# Altium integrated library ON Semi Zener Diodes.IntLib: 1366 symbols (part 3 of 29)
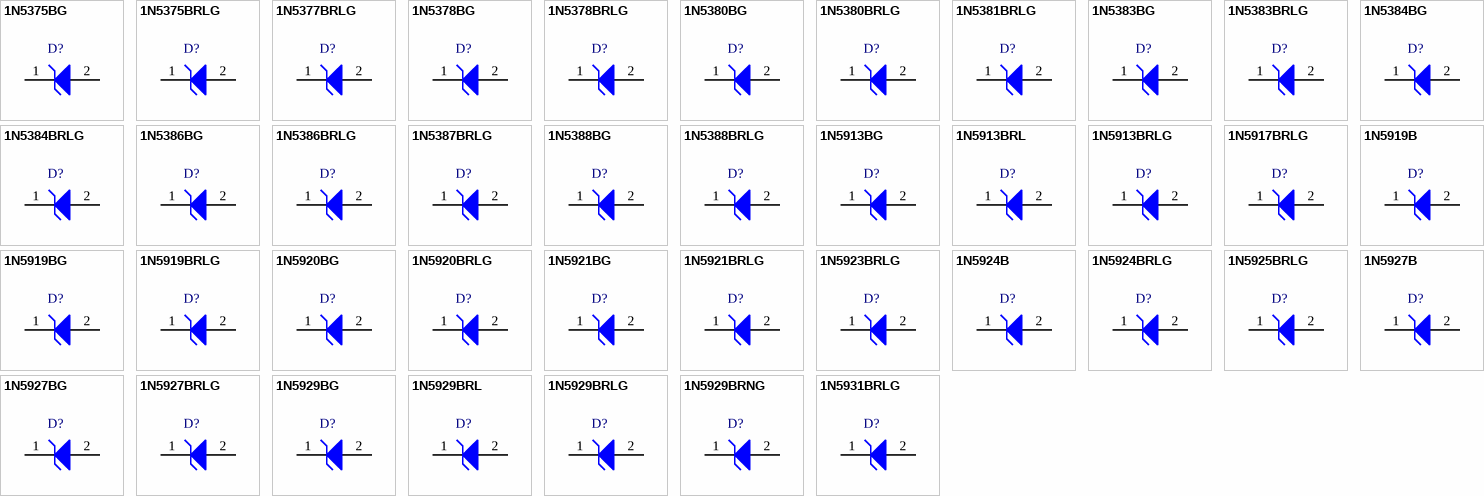
[diagram p46: symbols 1N5375BG to 1N5931BRLG]

## 1N5384BRLG
designator D?
5 W Zener Voltage Regulator, 2-Pin Surmetic(TM) 40, Pb-Free, Tape and Reel; Manufacturer: On Semiconductor; PartNumber: 1N5384BRLG; P Max (W): 5; VZ Typ (V): 160; DatasheetVersion: Rev. 14; PackageVersion: Rev. O, 09/2005; PackageReference: SURMETIC40-2-017AA-01; PackageDescription: 2-Pin, Axial Lead, Diameter 3.49 mm; Supplier 1: Digi-Key; Supplier Part Number 1: 1N5384BRLG-ND; Supplier 2: Newark; Supplier Part Number 2: 42K2925; Supplier 3: Mouser; Supplier Part Number 3: 863-1N5384BRLG; Packing: Tape and Reel; RoHS: Pb-Free; Mounting Technology: Through Hole; ComponentLink1Description: Manufacturer URL; ComponentLink1URL: http://www.onsemi.com/; ComponentLink2Description: Datasheet; ComponentLink2URL: http://www.onsemi.cn/pub_link/Collateral/1N5333B-D.PDF; ComponentLink3Description: Package Specification; ComponentLink3URL: http://www.onsemi.cn/pub_link/Collateral/017AA.PDF
footprint ONSC-SURMETIC40-2-017AA-01 (AXIAL, 2-Leads, Diameter 3.49mm)
pins: 1 K, 2 A

## 1N5386BG
designator D?
5 W Zener Voltage Regulator, 2-Pin Surmetic(TM) 40, Pb-Free, Bulk Box; Manufacturer: On Semiconductor; PartNumber: 1N5386BG; P Max (W): 5; VZ Typ (V): 180; DatasheetVersion: Rev. 14; PackageVersion: Rev. O, 09/2005; PackageReference: SURMETIC40-2-017AA-01; PackageDescription: 2-Pin, Axial Lead, Diameter 3.49 mm; Supplier 1: Digi-Key; Supplier Part Number 1: 1N5386BGOS-ND; Supplier 2: Farnell; Supplier Part Number 2: 9558390; Supplier 3: Newark; Supplier Part Number 3: 42K2926; Supplier 4: Mouser; Supplier Part Number 4: 863-1N5386BG; Packing: Bulk Box; RoHS: Pb-Free; Mounting Technology: Through Hole; ComponentLink1Description: Manufacturer URL; ComponentLink1URL: http://www.onsemi.com/; ComponentLink2Description: Datasheet; ComponentLink2URL: http://www.onsemi.cn/pub_link/Collateral/1N5333B-D.PDF; ComponentLink3Description: Package Specification; ComponentLink3URL: http://www.onsemi.cn/pub_link/Collateral/017AA.PDF
footprint ONSC-SURMETIC40-2-017AA-01 (AXIAL, 2-Leads, Diameter 3.49mm)
pins: 1 K, 2 A

## 1N5386BRLG
designator D?
5 W Zener Voltage Regulator, 2-Pin Surmetic(TM) 40, Pb-Free, Tape and Reel; Manufacturer: On Semiconductor; PartNumber: 1N5386BRLG; P Max (W): 5; VZ Typ (V): 180; DatasheetVersion: Rev. 14; PackageVersion: Rev. O, 09/2005; PackageReference: SURMETIC40-2-017AA-01; PackageDescription: 2-Pin, Axial Lead, Diameter 3.49 mm; Supplier 1: Digi-Key; Supplier Part Number 1: 1N5386BRLGOSTR-ND; Supplier 2: Digi-Key; Supplier Part Number 2: 1N5386BRLGOSCT-ND; Supplier 3: Farnell; Supplier Part Number 3: 1705683; Supplier 4: Newark; Supplier Part Number 4: 10N9641; Supplier 5: Mouser; Supplier Part Number 5: 863-1N5386BRLG; Packing: Tape and Reel; RoHS: Pb-Free; Mounting Technology: Through Hole; ComponentLink1Description: Manufacturer URL; ComponentLink1URL: http://www.onsemi.com/; ComponentLink2Description: Datasheet; ComponentLink2URL: http://www.onsemi.cn/pub_link/Collateral/1N5333B-D.PDF; ComponentLink3Description: Package Specification; ComponentLink3URL: http://www.onsemi.cn/pub_link/Collateral/017AA.PDF
footprint ONSC-SURMETIC40-2-017AA-01 (AXIAL, 2-Leads, Diameter 3.49mm)
pins: 1 K, 2 A

## 1N5387BRLG
designator D?
5 W Zener Voltage Regulator, 2-Pin Surmetic(TM) 40, Pb-Free, Tape and Reel; Manufacturer: On Semiconductor; PartNumber: 1N5387BRLG; P Max (W): 5; VZ Typ (V): 190; DatasheetVersion: Rev. 14; PackageVersion: Rev. O, 09/2005; PackageReference: SURMETIC40-2-017AA-01; PackageDescription: 2-Pin, Axial Lead, Diameter 3.49 mm; Supplier 1: Digi-Key; Supplier Part Number 1: 1N5387BRLGOSTR-ND; Supplier 2: Digi-Key; Supplier Part Number 2: 1N5387BRLGOSCT-ND; Supplier 3: Newark; Supplier Part Number 3: 03M1236; Supplier 4: Mouser; Supplier Part Number 4: 863-1N5387BRLG; Packing: Tape and Reel; RoHS: Pb-Free; Mounting Technology: Through Hole; ComponentLink1Description: Manufacturer URL; ComponentLink1URL: http://www.onsemi.com/; ComponentLink2Description: Datasheet; ComponentLink2URL: http://www.onsemi.cn/pub_link/Collateral/1N5333B-D.PDF; ComponentLink3Description: Package Specification; ComponentLink3URL: http://www.onsemi.cn/pub_link/Collateral/017AA.PDF
footprint ONSC-SURMETIC40-2-017AA-01 (AXIAL, 2-Leads, Diameter 3.49mm)
pins: 1 K, 2 A

## 1N5388BG
designator D?
5 W Zener Voltage Regulator, 2-Pin Surmetic(TM) 40, Pb-Free, Bulk Box; Manufacturer: On Semiconductor; PartNumber: 1N5388BG; P Max (W): 5; VZ Typ (V): 200; DatasheetVersion: Rev. 14; PackageVersion: Rev. O, 09/2005; PackageReference: SURMETIC40-2-017AA-01; PackageDescription: 2-Pin, Axial Lead, Diameter 3.49 mm; Supplier 1: Digi-Key; Supplier Part Number 1: 1N5388BGOS-ND; Supplier 2: Farnell; Supplier Part Number 2: 9558403; Supplier 3: Newark; Supplier Part Number 3: 70K6988; Supplier 4: Newark; Supplier Part Number 4: 39K0640; Supplier 5: Mouser; Supplier Part Number 5: 863-1N5388BG; Packing: Bulk Box; RoHS: Pb-Free; Mounting Technology: Through Hole; ComponentLink1Description: Manufacturer URL; ComponentLink1URL: http://www.onsemi.com/; ComponentLink2Description: Datasheet; ComponentLink2URL: http://www.onsemi.cn/pub_link/Collateral/1N5333B-D.PDF; ComponentLink3Description: Package Specification; ComponentLink3URL: http://www.onsemi.cn/pub_link/Collateral/017AA.PDF
footprint ONSC-SURMETIC40-2-017AA-01 (AXIAL, 2-Leads, Diameter 3.49mm)
pins: 1 K, 2 A

## 1N5388BRLG
designator D?
5 W Zener Voltage Regulator, 2-Pin Surmetic(TM) 40, Pb-Free, Tape and Reel; Manufacturer: On Semiconductor; PartNumber: 1N5388BRLG; P Max (W): 5; VZ Typ (V): 200; DatasheetVersion: Rev. 14; PackageVersion: Rev. O, 09/2005; PackageReference: SURMETIC40-2-017AA-01; PackageDescription: 2-Pin, Axial Lead, Diameter 3.49 mm; Supplier 1: Digi-Key; Supplier Part Number 1: 1N5388BRLGOSTR-ND; Supplier 2: Digi-Key; Supplier Part Number 2: 1N5388BRLGOSCT-ND; Supplier 3: Farnell; Supplier Part Number 3: 2369375; Supplier 4: Newark; Supplier Part Number 4: 10N9642; Supplier 5: Mouser; Supplier Part Number 5: 863-1N5388BRLG; Packing: Tape and Reel; RoHS: Pb-Free; Mounting Technology: Through Hole; ComponentLink1Description: Manufacturer URL; ComponentLink1URL: http://www.onsemi.com/; ComponentLink2Description: Datasheet; ComponentLink2URL: http://www.onsemi.cn/pub_link/Collateral/1N5333B-D.PDF; ComponentLink3Description: Package Specification; ComponentLink3URL: http://www.onsemi.cn/pub_link/Collateral/017AA.PDF
footprint ONSC-SURMETIC40-2-017AA-01 (AXIAL, 2-Leads, Diameter 3.49mm)
pins: 1 K, 2 A

## 1N5913BG
designator D?
3 W Zener Voltage Regulator, 2-Pin Axial_Lead, Pb-Free, Bulk Box; Manufacturer: On Semiconductor; PartNumber: 1N5913BG; VZ Typ (V): 3.3; DatasheetVersion: Rev. 5; PackageVersion: Rev. U, 02/2005; PackageReference: AXIAL_LEAD-2-59-10; PackageDescription: 2-Pin, Axial Lead, Diameter 2.35 mm; Supplier 1: Digi-Key; Supplier Part Number 1: 1N5913BG-ND; Supplier 2: Mouser; Supplier Part Number 2: 863-1N5913BG; Packing: Bulk Box; RoHS: Pb-Free; Mounting Technology: Through Hole; ComponentLink1Description: Manufacturer URL; ComponentLink1URL: http://www.onsemi.com/; ComponentLink2Description: Datasheet; ComponentLink2URL: http://www.onsemi.cn/pub_link/Collateral/1N5913B-D.PDF; ComponentLink3Description: Package Specification; ComponentLink3URL: http://www.onsemi.cn/pub_link/Collateral/59-10.PDF
footprint ONSC-AXIAL_LEAD-2-59-10_P (AXIAL, 2-Leads, Diameter 2.35mm)
pins: 1 K, 2 A

## 1N5913BRL
designator D?
3 W Zener Voltage Regulator, 2-Pin Axial_Lead, Pb-Free, Tape and Reel; Manufacturer: On Semiconductor; PartNumber: 1N5913BRL; VZ Typ (V): 3.3; DatasheetVersion: Rev. 5; PackageVersion: Rev. U, 02/2005; PackageReference: AXIAL_LEAD-2-59-10; PackageDescription: 2-Pin, Axial Lead, Diameter 2.35 mm; Supplier 1: Digi-Key; Supplier Part Number 1: 1N5913BRL-ND; Supplier 2: Mouser; Supplier Part Number 2: 863-1N5913BRL; Packing: Tape and Reel; RoHS: Pb-Free; Mounting Technology: Through Hole; ComponentLink1Description: Manufacturer URL; ComponentLink1URL: http://www.onsemi.com/; ComponentLink2Description: Datasheet; ComponentLink2URL: http://www.onsemi.cn/pub_link/Collateral/1N5913B-D.PDF; ComponentLink3Description: Package Specification; ComponentLink3URL: http://www.onsemi.cn/pub_link/Collateral/59-10.PDF
footprint ONSC-AXIAL_LEAD-2-59-10_P (AXIAL, 2-Leads, Diameter 2.35mm)
pins: 1 K, 2 A

## 1N5913BRLG
designator D?
3 W Zener Voltage Regulator, 2-Pin Axial_Lead, Pb-Free, Tape and Reel; Manufacturer: On Semiconductor; PartNumber: 1N5913BRLG; VZ Typ (V): 3.3; DatasheetVersion: Rev. 5; PackageVersion: Rev. U, 02/2005; PackageReference: AXIAL_LEAD-2-59-10; PackageDescription: 2-Pin, Axial Lead, Diameter 2.35 mm; Supplier 1: Digi-Key; Supplier Part Number 1: 1N5913BRLGOSTR-ND; Supplier 2: Digi-Key; Supplier Part Number 2: 1N5913BRLGOSCT-ND; Supplier 3: Newark; Supplier Part Number 3: 42K2957; Supplier 4: Mouser; Supplier Part Number 4: 863-1N5913BRLG; Packing: Tape and Reel; RoHS: Pb-Free; Mounting Technology: Through Hole; ComponentLink1Description: Manufacturer URL; ComponentLink1URL: http://www.onsemi.com/; ComponentLink2Description: Datasheet; ComponentLink2URL: http://www.onsemi.cn/pub_link/Collateral/1N5913B-D.PDF; ComponentLink3Description: Package Specification; ComponentLink3URL: http://www.onsemi.cn/pub_link/Collateral/59-10.PDF
footprint ONSC-AXIAL_LEAD-2-59-10_P (AXIAL, 2-Leads, Diameter 2.35mm)
pins: 1 K, 2 A

## 1N5917BRLG
designator D?
3 W Zener Voltage Regulator, 2-Pin Axial_Lead, Pb-Free, Tape and Reel; Manufacturer: On Semiconductor; PartNumber: 1N5917BRLG; VZ Typ (V): 4.7; DatasheetVersion: Rev. 5; PackageVersion: Rev. U, 02/2005; PackageReference: AXIAL_LEAD-2-59-10; PackageDescription: 2-Pin, Axial Lead, Diameter 2.35 mm; Supplier 1: Digi-Key; Supplier Part Number 1: 1N5917BRLGOSTR-ND; Supplier 2: Digi-Key; Supplier Part Number 2: 1N5917BRLGOSCT-ND; Supplier 3: Mouser; Supplier Part Number 3: 863-1N5917BRLG; Packing: Tape and Reel; RoHS: Pb-Free; Mounting Technology: Through Hole; ComponentLink1Description: Manufacturer URL; ComponentLink1URL: http://www.onsemi.com/; ComponentLink2Description: Datasheet; ComponentLink2URL: http://www.onsemi.cn/pub_link/Collateral/1N5913B-D.PDF; ComponentLink3Description: Package Specification; ComponentLink3URL: http://www.onsemi.cn/pub_link/Collateral/59-10.PDF
footprint ONSC-AXIAL_LEAD-2-59-10_P (AXIAL, 2-Leads, Diameter 2.35mm)
pins: 1 K, 2 A

## 1N5919B
designator D?
3 W Zener Voltage Regulator, 2-Pin Axial_Lead, Pb-Free, Bulk Box; Manufacturer: On Semiconductor; PartNumber: 1N5919B; VZ Typ (V): 5.6; DatasheetVersion: Rev. 5; PackageVersion: Rev. U, 02/2005; PackageReference: AXIAL_LEAD-2-59-10; PackageDescription: 2-Pin, Axial Lead, Diameter 2.35 mm; Supplier 1: Digi-Key; Supplier Part Number 1: 1N5919B-ND; Supplier 2: Mouser; Supplier Part Number 2: 863-1N5919B; Packing: Bulk Box; RoHS: Pb-Free; Mounting Technology: Through Hole; ComponentLink1Description: Manufacturer URL; ComponentLink1URL: http://www.onsemi.com/; ComponentLink2Description: Datasheet; ComponentLink2URL: http://www.onsemi.cn/pub_link/Collateral/1N5913B-D.PDF; ComponentLink3Description: Package Specification; ComponentLink3URL: http://www.onsemi.cn/pub_link/Collateral/59-10.PDF
footprint ONSC-AXIAL_LEAD-2-59-10_P (AXIAL, 2-Leads, Diameter 2.35mm)
pins: 1 K, 2 A

## 1N5919BG
designator D?
3 W Zener Voltage Regulator, 2-Pin Axial_Lead, Pb-Free, Bulk Box; Manufacturer: On Semiconductor; PartNumber: 1N5919BG; VZ Typ (V): 5.6; DatasheetVersion: Rev. 5; PackageVersion: Rev. U, 02/2005; PackageReference: AXIAL_LEAD-2-59-10; PackageDescription: 2-Pin, Axial Lead, Diameter 2.35 mm; Supplier 1: Digi-Key; Supplier Part Number 1: 1N5919BGOS-ND; Supplier 2: Farnell; Supplier Part Number 2: 1126326; Supplier 3: Newark; Supplier Part Number 3: 42K2959; Supplier 4: Mouser; Supplier Part Number 4: 863-1N5919BG; Packing: Bulk Box; RoHS: Pb-Free; Mounting Technology: Through Hole; ComponentLink1Description: Manufacturer URL; ComponentLink1URL: http://www.onsemi.com/; ComponentLink2Description: Datasheet; ComponentLink2URL: http://www.onsemi.cn/pub_link/Collateral/1N5913B-D.PDF; ComponentLink3Description: Package Specification; ComponentLink3URL: http://www.onsemi.cn/pub_link/Collateral/59-10.PDF
footprint ONSC-AXIAL_LEAD-2-59-10_P (AXIAL, 2-Leads, Diameter 2.35mm)
pins: 1 K, 2 A

## 1N5919BRLG
designator D?
3 W Zener Voltage Regulator, 2-Pin Axial_Lead, Pb-Free, Tape and Reel; Manufacturer: On Semiconductor; PartNumber: 1N5919BRLG; VZ Typ (V): 5.6; DatasheetVersion: Rev. 5; PackageVersion: Rev. U, 02/2005; PackageReference: AXIAL_LEAD-2-59-10; PackageDescription: 2-Pin, Axial Lead, Diameter 2.35 mm; Supplier 1: Digi-Key; Supplier Part Number 1: 1N5919BRLGOSTR-ND; Supplier 2: Digi-Key; Supplier Part Number 2: 1N5919BRLGOSCT-ND; Supplier 3: Mouser; Supplier Part Number 3: 863-1N5919BRLG; Packing: Tape and Reel; RoHS: Pb-Free; Mounting Technology: Through Hole; ComponentLink1Description: Manufacturer URL; ComponentLink1URL: http://www.onsemi.com/; ComponentLink2Description: Datasheet; ComponentLink2URL: http://www.onsemi.cn/pub_link/Collateral/1N5913B-D.PDF; ComponentLink3Description: Package Specification; ComponentLink3URL: http://www.onsemi.cn/pub_link/Collateral/59-10.PDF
footprint ONSC-AXIAL_LEAD-2-59-10_P (AXIAL, 2-Leads, Diameter 2.35mm)
pins: 1 K, 2 A

## 1N5920BG
designator D?
3 W Zener Voltage Regulator, 2-Pin Axial_Lead, Pb-Free, Bulk Box; Manufacturer: On Semiconductor; PartNumber: 1N5920BG; VZ Typ (V): 6.2; DatasheetVersion: Rev. 5; PackageVersion: Rev. U, 02/2005; PackageReference: AXIAL_LEAD-2-59-10; PackageDescription: 2-Pin, Axial Lead, Diameter 2.35 mm; Supplier 1: Digi-Key; Supplier Part Number 1: 1N5920BGOS-ND; Supplier 2: Farnell; Supplier Part Number 2: 1458995; Supplier 3: Newark; Supplier Part Number 3: 42K2961; Supplier 4: Mouser; Supplier Part Number 4: 863-1N5920BG; Packing: Bulk Box; RoHS: Pb-Free; Mounting Technology: Through Hole; ComponentLink1Description: Manufacturer URL; ComponentLink1URL: http://www.onsemi.com/; ComponentLink2Description: Datasheet; ComponentLink2URL: http://www.onsemi.cn/pub_link/Collateral/1N5913B-D.PDF; ComponentLink3Description: Package Specification; ComponentLink3URL: http://www.onsemi.cn/pub_link/Collateral/59-10.PDF
footprint ONSC-AXIAL_LEAD-2-59-10_P (AXIAL, 2-Leads, Diameter 2.35mm)
pins: 1 K, 2 A

## 1N5920BRLG
designator D?
3 W Zener Voltage Regulator, 2-Pin Axial_Lead, Pb-Free, Tape and Reel; Manufacturer: On Semiconductor; PartNumber: 1N5920BRLG; VZ Typ (V): 6.2; DatasheetVersion: Rev. 5; PackageVersion: Rev. U, 02/2005; PackageReference: AXIAL_LEAD-2-59-10; PackageDescription: 2-Pin, Axial Lead, Diameter 2.35 mm; Supplier 1: Digi-Key; Supplier Part Number 1: 1N5920BRLGOSTR-ND; Supplier 2: Digi-Key; Supplier Part Number 2: 1N5920BRLGOSCT-ND; Supplier 3: Newark; Supplier Part Number 3: 42K2962; Supplier 4: Mouser; Supplier Part Number 4: 863-1N5920BRLG; Packing: Tape and Reel; RoHS: Pb-Free; Mounting Technology: Through Hole; ComponentLink1Description: Manufacturer URL; ComponentLink1URL: http://www.onsemi.com/; ComponentLink2Description: Datasheet; ComponentLink2URL: http://www.onsemi.cn/pub_link/Collateral/1N5913B-D.PDF; ComponentLink3Description: Package Specification; ComponentLink3URL: http://www.onsemi.cn/pub_link/Collateral/59-10.PDF
footprint ONSC-AXIAL_LEAD-2-59-10_P (AXIAL, 2-Leads, Diameter 2.35mm)
pins: 1 K, 2 A

## 1N5921BG
designator D?
3 W Zener Voltage Regulator, 2-Pin Axial_Lead, Pb-Free, Bulk Box; Manufacturer: On Semiconductor; PartNumber: 1N5921BG; VZ Typ (V): 6.8; DatasheetVersion: Rev. 5; PackageVersion: Rev. U, 02/2005; PackageReference: AXIAL_LEAD-2-59-10; PackageDescription: 2-Pin, Axial Lead, Diameter 2.35 mm; Supplier 1: Digi-Key; Supplier Part Number 1: 1N5921BGOS-ND; Supplier 2: Farnell; Supplier Part Number 2: 1126327; Supplier 3: Newark; Supplier Part Number 3: 42K2963; Supplier 4: Mouser; Supplier Part Number 4: 863-1N5921BG; Packing: Bulk Box; RoHS: Pb-Free; Mounting Technology: Through Hole; ComponentLink1Description: Manufacturer URL; ComponentLink1URL: http://www.onsemi.com/; ComponentLink2Description: Datasheet; ComponentLink2URL: http://www.onsemi.cn/pub_link/Collateral/1N5913B-D.PDF; ComponentLink3Description: Package Specification; ComponentLink3URL: http://www.onsemi.cn/pub_link/Collateral/59-10.PDF
footprint ONSC-AXIAL_LEAD-2-59-10_P (AXIAL, 2-Leads, Diameter 2.35mm)
pins: 1 K, 2 A

## 1N5921BRLG
designator D?
3 W Zener Voltage Regulator, 2-Pin Axial_Lead, Pb-Free, Tape and Reel; Manufacturer: On Semiconductor; PartNumber: 1N5921BRLG; VZ Typ (V): 6.8; DatasheetVersion: Rev. 5; PackageVersion: Rev. U, 02/2005; PackageReference: AXIAL_LEAD-2-59-10; PackageDescription: 2-Pin, Axial Lead, Diameter 2.35 mm; Supplier 1: Digi-Key; Supplier Part Number 1: 1N5921BRLGOSTR-ND; Supplier 2: Digi-Key; Supplier Part Number 2: 1N5921BRLGOSCT-ND; Supplier 3: Mouser; Supplier Part Number 3: 863-1N5921BRLG; Packing: Tape and Reel; RoHS: Pb-Free; Mounting Technology: Through Hole; ComponentLink1Description: Manufacturer URL; ComponentLink1URL: http://www.onsemi.com/; ComponentLink2Description: Datasheet; ComponentLink2URL: http://www.onsemi.cn/pub_link/Collateral/1N5913B-D.PDF; ComponentLink3Description: Package Specification; ComponentLink3URL: http://www.onsemi.cn/pub_link/Collateral/59-10.PDF
footprint ONSC-AXIAL_LEAD-2-59-10_P (AXIAL, 2-Leads, Diameter 2.35mm)
pins: 1 K, 2 A

## 1N5923BRLG
designator D?
3 W Zener Voltage Regulator, 2-Pin Axial_Lead, Pb-Free, Tape and Reel; Manufacturer: On Semiconductor; PartNumber: 1N5923BRLG; VZ Typ (V): 8.2; DatasheetVersion: Rev. 5; PackageVersion: Rev. U, 02/2005; PackageReference: AXIAL_LEAD-2-59-10; PackageDescription: 2-Pin, Axial Lead, Diameter 2.35 mm; Supplier 1: Digi-Key; Supplier Part Number 1: 1N5923BRLGOSTR-ND; Supplier 2: Digi-Key; Supplier Part Number 2: 1N5923BRLGOSCT-ND; Supplier 3: Newark; Supplier Part Number 3: 42K2965; Supplier 4: Mouser; Supplier Part Number 4: 863-1N5923BRLG; Packing: Tape and Reel; RoHS: Pb-Free; Mounting Technology: Through Hole; ComponentLink1Description: Manufacturer URL; ComponentLink1URL: http://www.onsemi.com/; ComponentLink2Description: Datasheet; ComponentLink2URL: http://www.onsemi.cn/pub_link/Collateral/1N5913B-D.PDF; ComponentLink3Description: Package Specification; ComponentLink3URL: http://www.onsemi.cn/pub_link/Collateral/59-10.PDF
footprint ONSC-AXIAL_LEAD-2-59-10_P (AXIAL, 2-Leads, Diameter 2.35mm)
pins: 1 K, 2 A

## 1N5924B
designator D?
3 W Zener Voltage Regulator, 2-Pin Axial_Lead, Pb-Free, Bulk Box; Manufacturer: On Semiconductor; PartNumber: 1N5924B; VZ Typ (V): 9.1; DatasheetVersion: Rev. 5; PackageVersion: Rev. U, 02/2005; PackageReference: AXIAL_LEAD-2-59-10; PackageDescription: 2-Pin, Axial Lead, Diameter 2.35 mm; Supplier 1: Digi-Key; Supplier Part Number 1: 1N5924B-ND; Supplier 2: Mouser; Supplier Part Number 2: 863-1N5924B; Packing: Bulk Box; RoHS: Pb-Free; Mounting Technology: Through Hole; ComponentLink1Description: Manufacturer URL; ComponentLink1URL: http://www.onsemi.com/; ComponentLink2Description: Datasheet; ComponentLink2URL: http://www.onsemi.cn/pub_link/Collateral/1N5913B-D.PDF; ComponentLink3Description: Package Specification; ComponentLink3URL: http://www.onsemi.cn/pub_link/Collateral/59-10.PDF
footprint ONSC-AXIAL_LEAD-2-59-10_P (AXIAL, 2-Leads, Diameter 2.35mm)
pins: 1 K, 2 A

## 1N5924BRLG
designator D?
3 W Zener Voltage Regulator, 2-Pin Axial_Lead, Pb-Free, Tape and Reel; Manufacturer: On Semiconductor; PartNumber: 1N5924BRLG; VZ Typ (V): 9.1; DatasheetVersion: Rev. 5; PackageVersion: Rev. U, 02/2005; PackageReference: AXIAL_LEAD-2-59-10; PackageDescription: 2-Pin, Axial Lead, Diameter 2.35 mm; Supplier 1: Digi-Key; Supplier Part Number 1: 1N5924BRLGOSTR-ND; Supplier 2: Digi-Key; Supplier Part Number 2: 1N5924BRLGOSCT-ND; Supplier 3: Newark; Supplier Part Number 3: 42K2967; Supplier 4: Mouser; Supplier Part Number 4: 863-1N5924BRLG; Packing: Tape and Reel; RoHS: Pb-Free; Mounting Technology: Through Hole; ComponentLink1Description: Manufacturer URL; ComponentLink1URL: http://www.onsemi.com/; ComponentLink2Description: Datasheet; ComponentLink2URL: http://www.onsemi.cn/pub_link/Collateral/1N5913B-D.PDF; ComponentLink3Description: Package Specification; ComponentLink3URL: http://www.onsemi.cn/pub_link/Collateral/59-10.PDF
footprint ONSC-AXIAL_LEAD-2-59-10_P (AXIAL, 2-Leads, Diameter 2.35mm)
pins: 1 K, 2 A

## 1N5925BRLG
designator D?
3 W Zener Voltage Regulator, 2-Pin Axial_Lead, Pb-Free, Tape and Reel; Manufacturer: On Semiconductor; PartNumber: 1N5925BRLG; VZ Typ (V): 10; DatasheetVersion: Rev. 5; PackageVersion: Rev. U, 02/2005; PackageReference: AXIAL_LEAD-2-59-10; PackageDescription: 2-Pin, Axial Lead, Diameter 2.35 mm; Supplier 1: Digi-Key; Supplier Part Number 1: 1N5925BRLGOSTR-ND; Supplier 2: Digi-Key; Supplier Part Number 2: 1N5925BRLGOSCT-ND; Supplier 3: Newark; Supplier Part Number 3: 42K2968; Supplier 4: Newark; Supplier Part Number 4: 10N9644; Supplier 5: Mouser; Supplier Part Number 5: 863-1N5925BRLG; Packing: Tape and Reel; RoHS: Pb-Free; Mounting Technology: Through Hole; ComponentLink1Description: Manufacturer URL; ComponentLink1URL: http://www.onsemi.com/; ComponentLink2Description: Datasheet; ComponentLink2URL: http://www.onsemi.cn/pub_link/Collateral/1N5913B-D.PDF; ComponentLink3Description: Package Specification; ComponentLink3URL: http://www.onsemi.cn/pub_link/Collateral/59-10.PDF
footprint ONSC-AXIAL_LEAD-2-59-10_P (AXIAL, 2-Leads, Diameter 2.35mm)
pins: 1 K, 2 A

## 1N5927B
designator D?
3 W Zener Voltage Regulator, 2-Pin Axial_Lead, Pb-Free, Bulk Box; Manufacturer: On Semiconductor; PartNumber: 1N5927B; VZ Typ (V): 12; DatasheetVersion: Rev. 5; PackageVersion: Rev. U, 02/2005; PackageReference: AXIAL_LEAD-2-59-10; PackageDescription: 2-Pin, Axial Lead, Diameter 2.35 mm; Supplier 1: Digi-Key; Supplier Part Number 1: 1N5927B-ND; Supplier 2: Mouser; Supplier Part Number 2: 863-1N5927B; Packing: Bulk Box; RoHS: Pb-Free; Mounting Technology: Through Hole; ComponentLink1Description: Manufacturer URL; ComponentLink1URL: http://www.onsemi.com/; ComponentLink2Description: Datasheet; ComponentLink2URL: http://www.onsemi.cn/pub_link/Collateral/1N5913B-D.PDF; ComponentLink3Description: Package Specification; ComponentLink3URL: http://www.onsemi.cn/pub_link/Collateral/59-10.PDF
footprint ONSC-AXIAL_LEAD-2-59-10_P (AXIAL, 2-Leads, Diameter 2.35mm)
pins: 1 K, 2 A

## 1N5927BG
designator D?
3 W Zener Voltage Regulator, 2-Pin Axial_Lead, Pb-Free, Bulk Box; Manufacturer: On Semiconductor; PartNumber: 1N5927BG; VZ Typ (V): 12; DatasheetVersion: Rev. 5; PackageVersion: Rev. U, 02/2005; PackageReference: AXIAL_LEAD-2-59-10; PackageDescription: 2-Pin, Axial Lead, Diameter 2.35 mm; Supplier 1: Digi-Key; Supplier Part Number 1: 1N5927BGOS-ND; Supplier 2: Farnell; Supplier Part Number 2: 1351501; Supplier 3: Newark; Supplier Part Number 3: 42K2969; Supplier 4: Mouser; Supplier Part Number 4: 863-1N5927BG; Packing: Bulk Box; RoHS: Pb-Free; Mounting Technology: Through Hole; ComponentLink1Description: Manufacturer URL; ComponentLink1URL: http://www.onsemi.com/; ComponentLink2Description: Datasheet; ComponentLink2URL: http://www.onsemi.cn/pub_link/Collateral/1N5913B-D.PDF; ComponentLink3Description: Package Specification; ComponentLink3URL: http://www.onsemi.cn/pub_link/Collateral/59-10.PDF
footprint ONSC-AXIAL_LEAD-2-59-10_P (AXIAL, 2-Leads, Diameter 2.35mm)
pins: 1 K, 2 A

## 1N5927BRLG
designator D?
3 W Zener Voltage Regulator, 2-Pin Axial_Lead, Pb-Free, Tape and Reel; Manufacturer: On Semiconductor; PartNumber: 1N5927BRLG; VZ Typ (V): 12; DatasheetVersion: Rev. 5; PackageVersion: Rev. U, 02/2005; PackageReference: AXIAL_LEAD-2-59-10; PackageDescription: 2-Pin, Axial Lead, Diameter 2.35 mm; Supplier 1: Digi-Key; Supplier Part Number 1: 1N5927BRLGOSTR-ND; Supplier 2: Digi-Key; Supplier Part Number 2: 1N5927BRLGOSCT-ND; Supplier 3: Newark; Supplier Part Number 3: 42K2970; Supplier 4: Mouser; Supplier Part Number 4: 863-1N5927BRLG; Packing: Tape and Reel; RoHS: Pb-Free; Mounting Technology: Through Hole; ComponentLink1Description: Manufacturer URL; ComponentLink1URL: http://www.onsemi.com/; ComponentLink2Description: Datasheet; ComponentLink2URL: http://www.onsemi.cn/pub_link/Collateral/1N5913B-D.PDF; ComponentLink3Description: Package Specification; ComponentLink3URL: http://www.onsemi.cn/pub_link/Collateral/59-10.PDF
footprint ONSC-AXIAL_LEAD-2-59-10_P (AXIAL, 2-Leads, Diameter 2.35mm)
pins: 1 K, 2 A

## 1N5929BG
designator D?
3 W Zener Voltage Regulator, 2-Pin Axial_Lead, Pb-Free, Bulk Box; Manufacturer: On Semiconductor; PartNumber: 1N5929BG; VZ Typ (V): 15; DatasheetVersion: Rev. 5; PackageVersion: Rev. U, 02/2005; PackageReference: AXIAL_LEAD-2-59-10; PackageDescription: 2-Pin, Axial Lead, Diameter 2.35 mm; Supplier 1: Digi-Key; Supplier Part Number 1: 1N5929BGOS-ND; Supplier 2: Newark; Supplier Part Number 2: 42K2971; Supplier 3: Mouser; Supplier Part Number 3: 863-1N5929BG; Packing: Bulk Box; RoHS: Pb-Free; Mounting Technology: Through Hole; ComponentLink1Description: Manufacturer URL; ComponentLink1URL: http://www.onsemi.com/; ComponentLink2Description: Datasheet; ComponentLink2URL: http://www.onsemi.cn/pub_link/Collateral/1N5913B-D.PDF; ComponentLink3Description: Package Specification; ComponentLink3URL: http://www.onsemi.cn/pub_link/Collateral/59-10.PDF
footprint ONSC-AXIAL_LEAD-2-59-10_P (AXIAL, 2-Leads, Diameter 2.35mm)
pins: 1 K, 2 A

## 1N5929BRL
designator D?
3 W Zener Voltage Regulator, 2-Pin Axial_Lead, Pb-Free, Tape and Reel; Manufacturer: On Semiconductor; PartNumber: 1N5929BRL; VZ Typ (V): 15; DatasheetVersion: Rev. 5; PackageVersion: Rev. U, 02/2005; PackageReference: AXIAL_LEAD-2-59-10; PackageDescription: 2-Pin, Axial Lead, Diameter 2.35 mm; Supplier 1: Digi-Key; Supplier Part Number 1: 1N5929BRLOSCT-ND; Supplier 2: Mouser; Supplier Part Number 2: 863-1N5929BRL; Packing: Tape and Reel; RoHS: Pb-Free; Mounting Technology: Through Hole; ComponentLink1Description: Manufacturer URL; ComponentLink1URL: http://www.onsemi.com/; ComponentLink2Description: Datasheet; ComponentLink2URL: http://www.onsemi.cn/pub_link/Collateral/1N5913B-D.PDF; ComponentLink3Description: Package Specification; ComponentLink3URL: http://www.onsemi.cn/pub_link/Collateral/59-10.PDF
footprint ONSC-AXIAL_LEAD-2-59-10_P (AXIAL, 2-Leads, Diameter 2.35mm)
pins: 1 K, 2 A

## 1N5929BRLG
designator D?
3 W Zener Voltage Regulator, 2-Pin Axial_Lead, Pb-Free, Tape and Reel; Manufacturer: On Semiconductor; PartNumber: 1N5929BRLG; VZ Typ (V): 15; DatasheetVersion: Rev. 5; PackageVersion: Rev. U, 02/2005; PackageReference: AXIAL_LEAD-2-59-10; PackageDescription: 2-Pin, Axial Lead, Diameter 2.35 mm; Supplier 1: Digi-Key; Supplier Part Number 1: 1N5929BRLGOSTR-ND; Supplier 2: Digi-Key; Supplier Part Number 2: 1N5929BRLGOSCT-ND; Supplier 3: Farnell; Supplier Part Number 3: 1210031; Supplier 4: Newark; Supplier Part Number 4: 42K2972; Supplier 5: Mouser; Supplier Part Number 5: 863-1N5929BRLG; Packing: Tape and Reel; RoHS: Pb-Free; Mounting Technology: Through Hole; ComponentLink1Description: Manufacturer URL; ComponentLink1URL: http://www.onsemi.com/; ComponentLink2Description: Datasheet; ComponentLink2URL: http://www.onsemi.cn/pub_link/Collateral/1N5913B-D.PDF; ComponentLink3Description: Package Specification; ComponentLink3URL: http://www.onsemi.cn/pub_link/Collateral/59-10.PDF
footprint ONSC-AXIAL_LEAD-2-59-10_P (AXIAL, 2-Leads, Diameter 2.35mm)
pins: 1 K, 2 A

## 1N5929BRNG
designator D?
3 W Zener Voltage Regulator, 2-Pin Axial_Lead, Pb-Free, Bulk Box; Manufacturer: On Semiconductor; PartNumber: 1N5929BRNG; VZ Typ (V): 15; DatasheetVersion: Rev. 0; PackageVersion: Rev. O, 12/2011; PackageReference: AXIAL_LEAD-2-59AB; PackageDescription: 2-Pin, Axial Lead, Diameter 2.35 mm; Supplier 1: Digi-Key; Supplier Part Number 1: 1N5929BRNG-ND; Supplier 2: Mouser; Supplier Part Number 2: 863-1N5929BRNG; Packing: Bulk Box; RoHS: Pb-Free; Mounting Technology: Through Hole; ComponentLink1Description: Manufacturer URL; ComponentLink1URL: http://www.onsemi.com/; ComponentLink2Description: Datasheet; ComponentLink2URL: http://www.onsemi.cn/pub_link/Collateral/1N5929BRNG-D.PDF; ComponentLink3Description: Package Specification; ComponentLink3URL: http://www.onsemi.cn/pub_link/Collateral/59AB.PDF
footprint ONSC-AXIAL_LEAD-2-59AB_P (AXIAL, 2-Leads, Diameter 2.35mm)
pins: 1 K, 2 A

## 1N5931BRLG
designator D?
3 W Zener Voltage Regulator, 2-Pin Axial_Lead, Pb-Free, Tape and Reel; Manufacturer: On Semiconductor; PartNumber: 1N5931BRLG; VZ Typ (V): 18; DatasheetVersion: Rev. 5; PackageVersion: Rev. U, 02/2005; PackageReference: AXIAL_LEAD-2-59-10; PackageDescription: 2-Pin, Axial Lead, Diameter 2.35 mm; Supplier 1: Digi-Key; Supplier Part Number 1: 1N5931BRLGOSTR-ND; Supplier 2: Digi-Key; Supplier Part Number 2: 1N5931BRLGOSCT-ND; Supplier 3: Farnell; Supplier Part Number 3: 2369376; Supplier 4: Newark; Supplier Part Number 4: 42K2975; Supplier 5: Newark; Supplier Part Number 5: 10N9645; Supplier 6: Mouser; Supplier Part Number 6: 863-1N5931BRLG; Packing: Tape and Reel; RoHS: Pb-Free; Mounting Technology: Through Hole; ComponentLink1Description: Manufacturer URL; ComponentLink1URL: http://www.onsemi.com/; ComponentLink2Description: Datasheet; ComponentLink2URL: http://www.onsemi.cn/pub_link/Collateral/1N5913B-D.PDF; ComponentLink3Description: Package Specification; ComponentLink3URL: http://www.onsemi.cn/pub_link/Collateral/59-10.PDF
footprint ONSC-AXIAL_LEAD-2-59-10_P (AXIAL, 2-Leads, Diameter 2.35mm)
pins: 1 K, 2 A

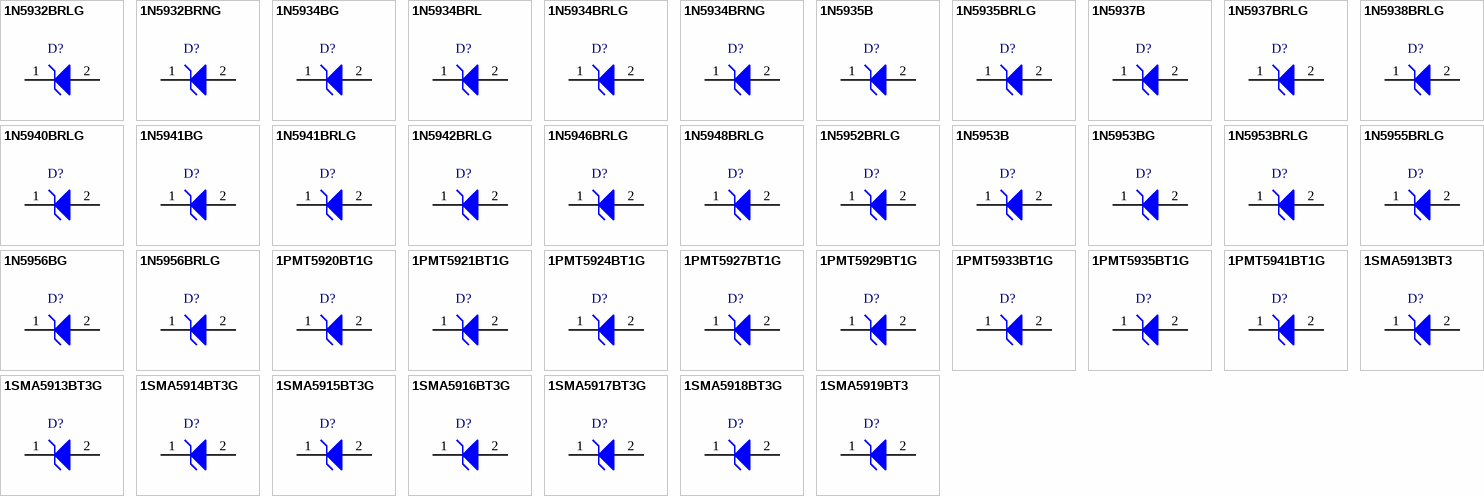
[diagram p3: symbols 1N5932BRLG to 1SMA5919BT3]

## 1N5932BRLG
designator D?
3 W Zener Voltage Regulator, 2-Pin Axial_Lead, Pb-Free, Tape and Reel; Manufacturer: On Semiconductor; PartNumber: 1N5932BRLG; VZ Typ (V): 20; DatasheetVersion: Rev. 5; PackageVersion: Rev. U, 02/2005; PackageReference: AXIAL_LEAD-2-59-10; PackageDescription: 2-Pin, Axial Lead, Diameter 2.35 mm; Supplier 1: Digi-Key; Supplier Part Number 1: 1N5932BRLGOSTR-ND; Supplier 2: Digi-Key; Supplier Part Number 2: 1N5932BRLGOSCT-ND; Supplier 3: Farnell; Supplier Part Number 3: 1364585; Supplier 4: Newark; Supplier Part Number 4: 42K2976; Supplier 5: Mouser; Supplier Part Number 5: 863-1N5932BRLG; Packing: Tape and Reel; RoHS: Pb-Free; Mounting Technology: Through Hole; ComponentLink1Description: Manufacturer URL; ComponentLink1URL: http://www.onsemi.com/; ComponentLink2Description: Datasheet; ComponentLink2URL: http://www.onsemi.cn/pub_link/Collateral/1N5913B-D.PDF; ComponentLink3Description: Package Specification; ComponentLink3URL: http://www.onsemi.cn/pub_link/Collateral/59-10.PDF
footprint ONSC-AXIAL_LEAD-2-59-10_P (AXIAL, 2-Leads, Diameter 2.35mm)
pins: 1 K, 2 A

## 1N5932BRNG
designator D?
3 W Zener Voltage Regulator, 2-Pin Axial_Lead, Pb-Free, Bulk Box; Manufacturer: On Semiconductor; PartNumber: 1N5932BRNG; VZ Typ (V): 20; DatasheetVersion: Rev. 0; PackageVersion: Rev. O, 12/2011; PackageReference: AXIAL_LEAD-2-59AB; PackageDescription: 2-Pin, Axial Lead, Diameter 2.35 mm; Supplier 1: Digi-Key; Supplier Part Number 1: 1N5932BRNG-ND; Supplier 2: Mouser; Supplier Part Number 2: 863-1N5932BRNG; Packing: Bulk Box; RoHS: Pb-Free; Mounting Technology: Through Hole; ComponentLink1Description: Manufacturer URL; ComponentLink1URL: http://www.onsemi.com/; ComponentLink2Description: Datasheet; ComponentLink2URL: http://www.onsemi.cn/pub_link/Collateral/1N5929BRNG-D.PDF; ComponentLink3Description: Package Specification; ComponentLink3URL: http://www.onsemi.cn/pub_link/Collateral/59AB.PDF
footprint ONSC-AXIAL_LEAD-2-59AB_P (AXIAL, 2-Leads, Diameter 2.35mm)
pins: 1 K, 2 A

## 1N5934BG
designator D?
3 W Zener Voltage Regulator, 2-Pin Axial_Lead, Pb-Free, Bulk Box; Manufacturer: On Semiconductor; PartNumber: 1N5934BG; VZ Typ (V): 24; DatasheetVersion: Rev. 5; PackageVersion: Rev. U, 02/2005; PackageReference: AXIAL_LEAD-2-59-10; PackageDescription: 2-Pin, Axial Lead, Diameter 2.35 mm; Supplier 1: Digi-Key; Supplier Part Number 1: 1N5934BGOS-ND; Supplier 2: Farnell; Supplier Part Number 2: 1886879; Supplier 3: Newark; Supplier Part Number 3: 42K2977; Supplier 4: Mouser; Supplier Part Number 4: 863-1N5934BG; Packing: Bulk Box; RoHS: Pb-Free; Mounting Technology: Through Hole; ComponentLink1Description: Manufacturer URL; ComponentLink1URL: http://www.onsemi.com/; ComponentLink2Description: Datasheet; ComponentLink2URL: http://www.onsemi.cn/pub_link/Collateral/1N5913B-D.PDF; ComponentLink3Description: Package Specification; ComponentLink3URL: http://www.onsemi.cn/pub_link/Collateral/59-10.PDF
footprint ONSC-AXIAL_LEAD-2-59-10_P (AXIAL, 2-Leads, Diameter 2.35mm)
pins: 1 K, 2 A

## 1N5934BRL
designator D?
3 W Zener Voltage Regulator, 2-Pin Axial_Lead, Pb-Free, Tape and Reel; Manufacturer: On Semiconductor; PartNumber: 1N5934BRL; VZ Typ (V): 24; DatasheetVersion: Rev. 5; PackageVersion: Rev. U, 02/2005; PackageReference: AXIAL_LEAD-2-59-10; PackageDescription: 2-Pin, Axial Lead, Diameter 2.35 mm; Supplier 1: Digi-Key; Supplier Part Number 1: 1N5934BRL-ND; Supplier 2: Mouser; Supplier Part Number 2: 863-1N5934BRL; Packing: Tape and Reel; RoHS: Pb-Free; Mounting Technology: Through Hole; ComponentLink1Description: Manufacturer URL; ComponentLink1URL: http://www.onsemi.com/; ComponentLink2Description: Datasheet; ComponentLink2URL: http://www.onsemi.cn/pub_link/Collateral/1N5913B-D.PDF; ComponentLink3Description: Package Specification; ComponentLink3URL: http://www.onsemi.cn/pub_link/Collateral/59-10.PDF
footprint ONSC-AXIAL_LEAD-2-59-10_P (AXIAL, 2-Leads, Diameter 2.35mm)
pins: 1 K, 2 A

## 1N5934BRLG
designator D?
3 W Zener Voltage Regulator, 2-Pin Axial_Lead, Pb-Free, Tape and Reel; Manufacturer: On Semiconductor; PartNumber: 1N5934BRLG; VZ Typ (V): 24; DatasheetVersion: Rev. 5; PackageVersion: Rev. U, 02/2005; PackageReference: AXIAL_LEAD-2-59-10; PackageDescription: 2-Pin, Axial Lead, Diameter 2.35 mm; Supplier 1: Digi-Key; Supplier Part Number 1: 1N5934BRLGOSTR-ND; Supplier 2: Digi-Key; Supplier Part Number 2: 1N5934BRLGOSCT-ND; Supplier 3: Newark; Supplier Part Number 3: 42K2978; Supplier 4: Mouser; Supplier Part Number 4: 863-1N5934BRLG; Packing: Tape and Reel; RoHS: Pb-Free; Mounting Technology: Through Hole; ComponentLink1Description: Manufacturer URL; ComponentLink1URL: http://www.onsemi.com/; ComponentLink2Description: Datasheet; ComponentLink2URL: http://www.onsemi.cn/pub_link/Collateral/1N5913B-D.PDF; ComponentLink3Description: Package Specification; ComponentLink3URL: http://www.onsemi.cn/pub_link/Collateral/59-10.PDF
footprint ONSC-AXIAL_LEAD-2-59-10_P (AXIAL, 2-Leads, Diameter 2.35mm)
pins: 1 K, 2 A

## 1N5934BRNG
designator D?
3 W Zener Voltage Regulator, 2-Pin Axial_Lead, Pb-Free, Bulk Box; Manufacturer: On Semiconductor; PartNumber: 1N5934BRNG; VZ Typ (V): 24; DatasheetVersion: Rev. 0; PackageVersion: Rev. O, 12/2011; PackageReference: AXIAL_LEAD-2-59AB; PackageDescription: 2-Pin, Axial Lead, Diameter 2.35 mm; Supplier 1: Digi-Key; Supplier Part Number 1: 1N5934BRNG-ND; Supplier 2: Mouser; Supplier Part Number 2: 863-1N5934BRNG; Packing: Bulk Box; RoHS: Pb-Free; Mounting Technology: Through Hole; ComponentLink1Description: Manufacturer URL; ComponentLink1URL: http://www.onsemi.com/; ComponentLink2Description: Datasheet; ComponentLink2URL: http://www.onsemi.cn/pub_link/Collateral/1N5929BRNG-D.PDF; ComponentLink3Description: Package Specification; ComponentLink3URL: http://www.onsemi.cn/pub_link/Collateral/59AB.PDF
footprint ONSC-AXIAL_LEAD-2-59AB_P (AXIAL, 2-Leads, Diameter 2.35mm)
pins: 1 K, 2 A

## 1N5935B
designator D?
3 W Zener Voltage Regulator, 2-Pin Axial_Lead, Pb-Free, Bulk Box; Manufacturer: On Semiconductor; PartNumber: 1N5935B; VZ Typ (V): 27; DatasheetVersion: Rev. 5; PackageVersion: Rev. U, 02/2005; PackageReference: AXIAL_LEAD-2-59-10; PackageDescription: 2-Pin, Axial Lead, Diameter 2.35 mm; Supplier 1: Digi-Key; Supplier Part Number 1: 1N5935B-ND; Supplier 2: Newark; Supplier Part Number 2: 09F4541; Supplier 3: Mouser; Supplier Part Number 3: 863-1N5935B; Packing: Bulk Box; RoHS: Pb-Free; Mounting Technology: Through Hole; ComponentLink1Description: Manufacturer URL; ComponentLink1URL: http://www.onsemi.com/; ComponentLink2Description: Datasheet; ComponentLink2URL: http://www.onsemi.cn/pub_link/Collateral/1N5913B-D.PDF; ComponentLink3Description: Package Specification; ComponentLink3URL: http://www.onsemi.cn/pub_link/Collateral/59-10.PDF
footprint ONSC-AXIAL_LEAD-2-59-10_P (AXIAL, 2-Leads, Diameter 2.35mm)
pins: 1 K, 2 A

## 1N5935BRLG
designator D?
3 W Zener Voltage Regulator, 2-Pin Axial_Lead, Pb-Free, Tape and Reel; Manufacturer: On Semiconductor; PartNumber: 1N5935BRLG; VZ Typ (V): 27; DatasheetVersion: Rev. 5; PackageVersion: Rev. U, 02/2005; PackageReference: AXIAL_LEAD-2-59-10; PackageDescription: 2-Pin, Axial Lead, Diameter 2.35 mm; Supplier 1: Digi-Key; Supplier Part Number 1: 1N5935BRLGOSTR-ND; Supplier 2: Digi-Key; Supplier Part Number 2: 1N5935BRLGOSCT-ND; Supplier 3: Newark; Supplier Part Number 3: 27M2940; Supplier 4: Mouser; Supplier Part Number 4: 863-1N5935BRLG; Packing: Tape and Reel; RoHS: Pb-Free; Mounting Technology: Through Hole; ComponentLink1Description: Manufacturer URL; ComponentLink1URL: http://www.onsemi.com/; ComponentLink2Description: Datasheet; ComponentLink2URL: http://www.onsemi.cn/pub_link/Collateral/1N5913B-D.PDF; ComponentLink3Description: Package Specification; ComponentLink3URL: http://www.onsemi.cn/pub_link/Collateral/59-10.PDF
footprint ONSC-AXIAL_LEAD-2-59-10_P (AXIAL, 2-Leads, Diameter 2.35mm)
pins: 1 K, 2 A

## 1N5937B
designator D?
3 W Zener Voltage Regulator, 2-Pin Axial_Lead, Pb-Free, Bulk Box; Manufacturer: On Semiconductor; PartNumber: 1N5937B; VZ Typ (V): 33; DatasheetVersion: Rev. 5; PackageVersion: Rev. U, 02/2005; PackageReference: AXIAL_LEAD-2-59-10; PackageDescription: 2-Pin, Axial Lead, Diameter 2.35 mm; Supplier 1: Digi-Key; Supplier Part Number 1: 1N5937B-ND; Supplier 2: Newark; Supplier Part Number 2: 09F4544; Supplier 3: Mouser; Supplier Part Number 3: 863-1N5937B; Packing: Bulk Box; RoHS: Pb-Free; Mounting Technology: Through Hole; ComponentLink1Description: Manufacturer URL; ComponentLink1URL: http://www.onsemi.com/; ComponentLink2Description: Datasheet; ComponentLink2URL: http://www.onsemi.cn/pub_link/Collateral/1N5913B-D.PDF; ComponentLink3Description: Package Specification; ComponentLink3URL: http://www.onsemi.cn/pub_link/Collateral/59-10.PDF
footprint ONSC-AXIAL_LEAD-2-59-10_P (AXIAL, 2-Leads, Diameter 2.35mm)
pins: 1 K, 2 A

## 1N5937BRLG
designator D?
3 W Zener Voltage Regulator, 2-Pin Axial_Lead, Pb-Free, Tape and Reel; Manufacturer: On Semiconductor; PartNumber: 1N5937BRLG; VZ Typ (V): 33; DatasheetVersion: Rev. 5; PackageVersion: Rev. U, 02/2005; PackageReference: AXIAL_LEAD-2-59-10; PackageDescription: 2-Pin, Axial Lead, Diameter 2.35 mm; Supplier 1: Digi-Key; Supplier Part Number 1: 1N5937BRLGOSTR-ND; Supplier 2: Digi-Key; Supplier Part Number 2: 1N5937BRLGOSCT-ND; Supplier 3: Newark; Supplier Part Number 3: 42K2983; Supplier 4: Mouser; Supplier Part Number 4: 863-1N5937BRLG; Packing: Tape and Reel; RoHS: Pb-Free; Mounting Technology: Through Hole; ComponentLink1Description: Manufacturer URL; ComponentLink1URL: http://www.onsemi.com/; ComponentLink2Description: Datasheet; ComponentLink2URL: http://www.onsemi.cn/pub_link/Collateral/1N5913B-D.PDF; ComponentLink3Description: Package Specification; ComponentLink3URL: http://www.onsemi.cn/pub_link/Collateral/59-10.PDF
footprint ONSC-AXIAL_LEAD-2-59-10_P (AXIAL, 2-Leads, Diameter 2.35mm)
pins: 1 K, 2 A

## 1N5938BRLG
designator D?
3 W Zener Voltage Regulator, 2-Pin Axial_Lead, Pb-Free, Tape and Reel; Manufacturer: On Semiconductor; PartNumber: 1N5938BRLG; VZ Typ (V): 36; DatasheetVersion: Rev. 5; PackageVersion: Rev. U, 02/2005; PackageReference: AXIAL_LEAD-2-59-10; PackageDescription: 2-Pin, Axial Lead, Diameter 2.35 mm; Supplier 1: Digi-Key; Supplier Part Number 1: 1N5938BRLGOSTR-ND; Supplier 2: Digi-Key; Supplier Part Number 2: 1N5938BRLGOSCT-ND; Supplier 3: Newark; Supplier Part Number 3: 42K2985; Supplier 4: Mouser; Supplier Part Number 4: 863-1N5938BRLG; Packing: Tape and Reel; RoHS: Pb-Free; Mounting Technology: Through Hole; ComponentLink1Description: Manufacturer URL; ComponentLink1URL: http://www.onsemi.com/; ComponentLink2Description: Datasheet; ComponentLink2URL: http://www.onsemi.cn/pub_link/Collateral/1N5913B-D.PDF; ComponentLink3Description: Package Specification; ComponentLink3URL: http://www.onsemi.cn/pub_link/Collateral/59-10.PDF
footprint ONSC-AXIAL_LEAD-2-59-10_P (AXIAL, 2-Leads, Diameter 2.35mm)
pins: 1 K, 2 A

## 1N5940BRLG
designator D?
3 W Zener Voltage Regulator, 2-Pin Axial_Lead, Pb-Free, Tape and Reel; Manufacturer: On Semiconductor; PartNumber: 1N5940BRLG; VZ Typ (V): 43; DatasheetVersion: Rev. 5; PackageVersion: Rev. U, 02/2005; PackageReference: AXIAL_LEAD-2-59-10; PackageDescription: 2-Pin, Axial Lead, Diameter 2.35 mm; Supplier 1: Digi-Key; Supplier Part Number 1: 1N5940BRLGOSTR-ND; Supplier 2: Digi-Key; Supplier Part Number 2: 1N5940BRLGOSCT-ND; Supplier 3: Mouser; Supplier Part Number 3: 863-1N5940BRLG; Packing: Tape and Reel; RoHS: Pb-Free; Mounting Technology: Through Hole; ComponentLink1Description: Manufacturer URL; ComponentLink1URL: http://www.onsemi.com/; ComponentLink2Description: Datasheet; ComponentLink2URL: http://www.onsemi.cn/pub_link/Collateral/1N5913B-D.PDF; ComponentLink3Description: Package Specification; ComponentLink3URL: http://www.onsemi.cn/pub_link/Collateral/59-10.PDF
footprint ONSC-AXIAL_LEAD-2-59-10_P (AXIAL, 2-Leads, Diameter 2.35mm)
pins: 1 K, 2 A

## 1N5941BG
designator D?
3 W Zener Voltage Regulator, 2-Pin Axial_Lead, Pb-Free, Bulk Box; Manufacturer: On Semiconductor; PartNumber: 1N5941BG; VZ Typ (V): 47; DatasheetVersion: Rev. 5; PackageVersion: Rev. U, 02/2005; PackageReference: AXIAL_LEAD-2-59-10; PackageDescription: 2-Pin, Axial Lead, Diameter 2.35 mm; Supplier 1: Digi-Key; Supplier Part Number 1: 1N5941BG-ND; Supplier 2: Mouser; Supplier Part Number 2: 863-1N5941BG; Packing: Bulk Box; RoHS: Pb-Free; Mounting Technology: Through Hole; ComponentLink1Description: Manufacturer URL; ComponentLink1URL: http://www.onsemi.com/; ComponentLink2Description: Datasheet; ComponentLink2URL: http://www.onsemi.cn/pub_link/Collateral/1N5913B-D.PDF; ComponentLink3Description: Package Specification; ComponentLink3URL: http://www.onsemi.cn/pub_link/Collateral/59-10.PDF
footprint ONSC-AXIAL_LEAD-2-59-10_P (AXIAL, 2-Leads, Diameter 2.35mm)
pins: 1 K, 2 A

## 1N5941BRLG
designator D?
3 W Zener Voltage Regulator, 2-Pin Axial_Lead, Pb-Free, Tape and Reel; Manufacturer: On Semiconductor; PartNumber: 1N5941BRLG; VZ Typ (V): 47; DatasheetVersion: Rev. 5; PackageVersion: Rev. U, 02/2005; PackageReference: AXIAL_LEAD-2-59-10; PackageDescription: 2-Pin, Axial Lead, Diameter 2.35 mm; Supplier 1: Digi-Key; Supplier Part Number 1: 1N5941BRLGOSTR-ND; Supplier 2: Digi-Key; Supplier Part Number 2: 1N5941BRLGOSCT-ND; Supplier 3: Mouser; Supplier Part Number 3: 863-1N5941BRLG; Packing: Tape and Reel; RoHS: Pb-Free; Mounting Technology: Through Hole; ComponentLink1Description: Manufacturer URL; ComponentLink1URL: http://www.onsemi.com/; ComponentLink2Description: Datasheet; ComponentLink2URL: http://www.onsemi.cn/pub_link/Collateral/1N5913B-D.PDF; ComponentLink3Description: Package Specification; ComponentLink3URL: http://www.onsemi.cn/pub_link/Collateral/59-10.PDF
footprint ONSC-AXIAL_LEAD-2-59-10_P (AXIAL, 2-Leads, Diameter 2.35mm)
pins: 1 K, 2 A

## 1N5942BRLG
designator D?
3 W Zener Voltage Regulator, 2-Pin Axial_Lead, Pb-Free, Tape and Reel; Manufacturer: On Semiconductor; PartNumber: 1N5942BRLG; VZ Typ (V): 51; DatasheetVersion: Rev. 5; PackageVersion: Rev. U, 02/2005; PackageReference: AXIAL_LEAD-2-59-10; PackageDescription: 2-Pin, Axial Lead, Diameter 2.35 mm; Supplier 1: Digi-Key; Supplier Part Number 1: 1N5942BRLGOSTR-ND; Supplier 2: Digi-Key; Supplier Part Number 2: 1N5942BRLGOSCT-ND; Supplier 3: Farnell; Supplier Part Number 3: 1311217; Supplier 4: Newark; Supplier Part Number 4: 42K2989; Supplier 5: Mouser; Supplier Part Number 5: 863-1N5942BRLG; Packing: Tape and Reel; RoHS: Pb-Free; Mounting Technology: Through Hole; ComponentLink1Description: Manufacturer URL; ComponentLink1URL: http://www.onsemi.com/; ComponentLink2Description: Datasheet; ComponentLink2URL: http://www.onsemi.cn/pub_link/Collateral/1N5913B-D.PDF; ComponentLink3Description: Package Specification; ComponentLink3URL: http://www.onsemi.cn/pub_link/Collateral/59-10.PDF
footprint ONSC-AXIAL_LEAD-2-59-10_P (AXIAL, 2-Leads, Diameter 2.35mm)
pins: 1 K, 2 A

## 1N5946BRLG
designator D?
3 W Zener Voltage Regulator, 2-Pin Axial_Lead, Pb-Free, Tape and Reel; Manufacturer: On Semiconductor; PartNumber: 1N5946BRLG; VZ Typ (V): 75; DatasheetVersion: Rev. 5; PackageVersion: Rev. U, 02/2005; PackageReference: AXIAL_LEAD-2-59-10; PackageDescription: 2-Pin, Axial Lead, Diameter 2.35 mm; Supplier 1: Digi-Key; Supplier Part Number 1: 1N5946BRLG-ND; Supplier 2: Newark; Supplier Part Number 2: 42K2991; Supplier 3: Mouser; Supplier Part Number 3: 863-1N5946BRLG; Packing: Tape and Reel; RoHS: Pb-Free; Mounting Technology: Through Hole; ComponentLink1Description: Manufacturer URL; ComponentLink1URL: http://www.onsemi.com/; ComponentLink2Description: Datasheet; ComponentLink2URL: http://www.onsemi.cn/pub_link/Collateral/1N5913B-D.PDF; ComponentLink3Description: Package Specification; ComponentLink3URL: http://www.onsemi.cn/pub_link/Collateral/59-10.PDF
footprint ONSC-AXIAL_LEAD-2-59-10_P (AXIAL, 2-Leads, Diameter 2.35mm)
pins: 1 K, 2 A

## 1N5948BRLG
designator D?
3 W Zener Voltage Regulator, 2-Pin Axial_Lead, Pb-Free, Tape and Reel; Manufacturer: On Semiconductor; PartNumber: 1N5948BRLG; VZ Typ (V): 91; DatasheetVersion: Rev. 5; PackageVersion: Rev. U, 02/2005; PackageReference: AXIAL_LEAD-2-59-10; PackageDescription: 2-Pin, Axial Lead, Diameter 2.35 mm; Supplier 1: Digi-Key; Supplier Part Number 1: 1N5948BRLGOSTR-ND; Supplier 2: Digi-Key; Supplier Part Number 2: 1N5948BRLGOSCT-ND; Supplier 3: Newark; Supplier Part Number 3: 42K2992; Supplier 4: Mouser; Supplier Part Number 4: 863-1N5948BRLG; Packing: Tape and Reel; RoHS: Pb-Free; Mounting Technology: Through Hole; ComponentLink1Description: Manufacturer URL; ComponentLink1URL: http://www.onsemi.com/; ComponentLink2Description: Datasheet; ComponentLink2URL: http://www.onsemi.cn/pub_link/Collateral/1N5913B-D.PDF; ComponentLink3Description: Package Specification; ComponentLink3URL: http://www.onsemi.cn/pub_link/Collateral/59-10.PDF
footprint ONSC-AXIAL_LEAD-2-59-10_P (AXIAL, 2-Leads, Diameter 2.35mm)
pins: 1 K, 2 A

## 1N5952BRLG
designator D?
3 W Zener Voltage Regulator, 2-Pin Axial_Lead, Pb-Free, Tape and Reel; Manufacturer: On Semiconductor; PartNumber: 1N5952BRLG; VZ Typ (V): 130; DatasheetVersion: Rev. 5; PackageVersion: Rev. U, 02/2005; PackageReference: AXIAL_LEAD-2-59-10; PackageDescription: 2-Pin, Axial Lead, Diameter 2.35 mm; Supplier 1: Digi-Key; Supplier Part Number 1: 1N5952BRLGOSTR-ND; Supplier 2: Digi-Key; Supplier Part Number 2: 1N5952BRLGOSCT-ND; Supplier 3: Newark; Supplier Part Number 3: 27M2941; Supplier 4: Mouser; Supplier Part Number 4: 863-1N5952BRLG; Packing: Tape and Reel; RoHS: Pb-Free; Mounting Technology: Through Hole; ComponentLink1Description: Manufacturer URL; ComponentLink1URL: http://www.onsemi.com/; ComponentLink2Description: Datasheet; ComponentLink2URL: http://www.onsemi.cn/pub_link/Collateral/1N5913B-D.PDF; ComponentLink3Description: Package Specification; ComponentLink3URL: http://www.onsemi.cn/pub_link/Collateral/59-10.PDF
footprint ONSC-AXIAL_LEAD-2-59-10_P (AXIAL, 2-Leads, Diameter 2.35mm)
pins: 1 K, 2 A

## 1N5953B
designator D?
3 W Zener Voltage Regulator, 2-Pin Axial_Lead, Pb-Free, Bulk Box; Manufacturer: On Semiconductor; PartNumber: 1N5953B; VZ Typ (V): 150; DatasheetVersion: Rev. 5; PackageVersion: Rev. U, 02/2005; PackageReference: AXIAL_LEAD-2-59-10; PackageDescription: 2-Pin, Axial Lead, Diameter 2.35 mm; Supplier 1: Digi-Key; Supplier Part Number 1: 1N5953B-ND; Supplier 2: Mouser; Supplier Part Number 2: 863-1N5953B; Packing: Bulk Box; RoHS: Pb-Free; Mounting Technology: Through Hole; ComponentLink1Description: Manufacturer URL; ComponentLink1URL: http://www.onsemi.com/; ComponentLink2Description: Datasheet; ComponentLink2URL: http://www.onsemi.cn/pub_link/Collateral/1N5913B-D.PDF; ComponentLink3Description: Package Specification; ComponentLink3URL: http://www.onsemi.cn/pub_link/Collateral/59-10.PDF
footprint ONSC-AXIAL_LEAD-2-59-10_P (AXIAL, 2-Leads, Diameter 2.35mm)
pins: 1 K, 2 A

## 1N5953BG
designator D?
3 W Zener Voltage Regulator, 2-Pin Axial_Lead, Pb-Free, Bulk Box; Manufacturer: On Semiconductor; PartNumber: 1N5953BG; VZ Typ (V): 150; DatasheetVersion: Rev. 5; PackageVersion: Rev. U, 02/2005; PackageReference: AXIAL_LEAD-2-59-10; PackageDescription: 2-Pin, Axial Lead, Diameter 2.35 mm; Supplier 1: Digi-Key; Supplier Part Number 1: 1N5953BGOS-ND; Supplier 2: Farnell; Supplier Part Number 2: 1147752; Supplier 3: Newark; Supplier Part Number 3: 42K2994; Supplier 4: Mouser; Supplier Part Number 4: 863-1N5953BG; Packing: Bulk Box; RoHS: Pb-Free; Mounting Technology: Through Hole; ComponentLink1Description: Manufacturer URL; ComponentLink1URL: http://www.onsemi.com/; ComponentLink2Description: Datasheet; ComponentLink2URL: http://www.onsemi.cn/pub_link/Collateral/1N5913B-D.PDF; ComponentLink3Description: Package Specification; ComponentLink3URL: http://www.onsemi.cn/pub_link/Collateral/59-10.PDF
footprint ONSC-AXIAL_LEAD-2-59-10_P (AXIAL, 2-Leads, Diameter 2.35mm)
pins: 1 K, 2 A